# Altium footprint library 野火_F429_F767_H743挑战者_底板_V2_0_PCB封装库_AD格式.PcbLib: 66 footprints (part 5 of 5)
Each footprint in its own frame and in the unit in brackets; x right, y up, seen from the top. Pads: shape width x height; smd on the part's side, far side on the other; paste and mask are expansions set on the pad; w line width, h text height; cw(c..) or ccw(c..) is an arc to the next point about the centre after c.
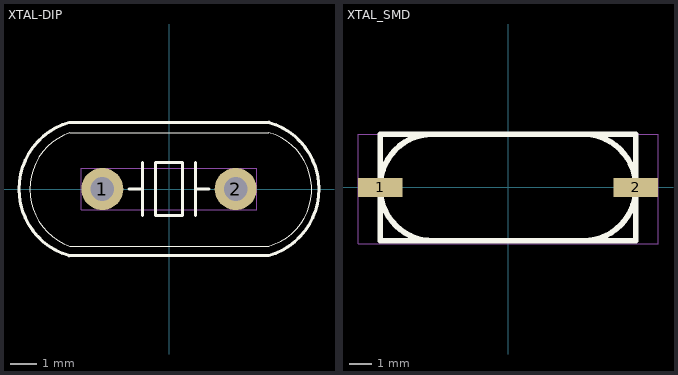
[diagram p4: the footprints below, top view; thin cyan lines are the x and y axes]

## XTAL-DIP [mil]
pads (2):
  round 62.99 hole 35.43 mask+2: 1(-100,0) 2(100,0)
Top Overlay:
  lines w1: 149.45,-85.69 ccw(c125.85,-0.59) 149.6,84.47 ; 149.53,-85.67 -148.7,-85.67 cw(c-118.91,-0.59) -148.7,84.49 149.53,84.49
  lines w4.72: -150.08,99.98 ccw(c-120.85,0) -149.91,-100.03 ; -150,-100 150,-100 ; -150,100 150,100 ; -60,0 -40,0 ; -40,-40 -40,40 ; 40,-40 40,40 ; 40,0 60,0 ; 149.91,100.03 cw(c120.85,0) 150.08,-99.98 ; -20,-40 -20,40 20,40 20,-40 -20,-40
Top Assembly:
  text "Y5" at 38.93,25 h50
Mechanical 20:
  lines w1: -131.5,-31.5 131.5,-31.5 131.5,31.5 -131.5,31.5 -131.5,-31.5

## XTAL_SMD [mm]
pads (2):
  rect 2x0.85 smd mask+0.05: 1(-5.75,0) 2(5.75,0)
Top Overlay:
  lines w0.254: -5.75,-0.069 -5.75,0 ; -5.75,-0.068 ccw(c-3.385,-0.035) -3.352,-2.4 ; -5.75,0.002 cw(c-3.385,0.035) -3.418,2.4 ; 3.352,2.4 cw(c3.385,0.035) 5.75,0.068 ; 3.418,-2.4 ccw(c3.385,-0.035) 5.75,-0.002 ; 5.75,0 5.75,0.069 ; -5.75,-2.4 -5.75,2.4 5.75,2.4 5.75,-2.4 -5.75,-2.4
Top Assembly:
  text "Y3" at 0.989,0.635 h1.27
Mechanical 20:
  lines w0.025: -6.75,-2.54 -6.75,2.4 6.75,2.4 6.75,-2.54 -6.75,-2.54